# Altium footprint library IEAv.PcbLib: 1 footprints
Each footprint in its own frame and in the unit in brackets; x right, y up, seen from the top. Pads: shape width x height; smd on the part's side, far side on the other; paste and mask are expansions set on the pad; w line width, h text height; cw(c..) or ccw(c..) is an arc to the next point about the centre after c.
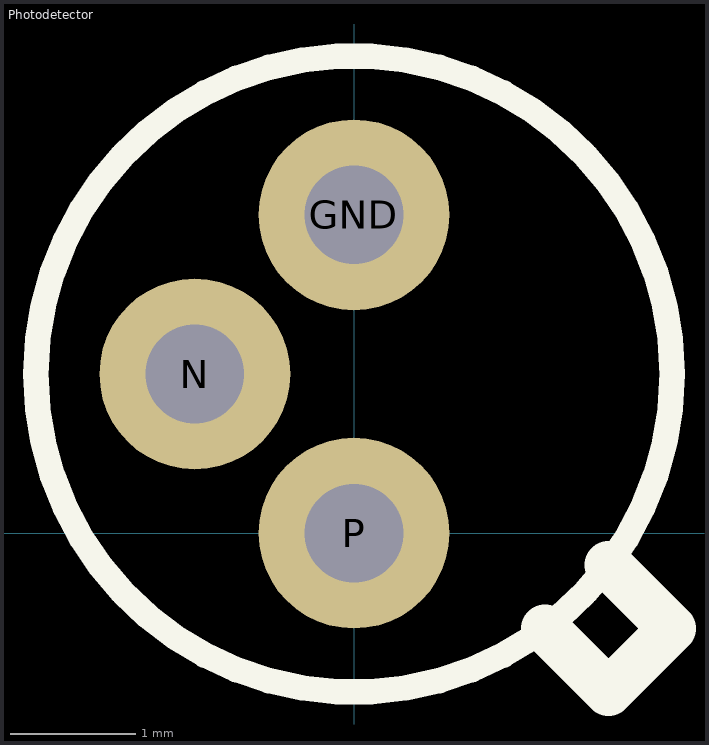
[diagram p0: the footprint, top view; thin cyan lines are the x and y axes]

## Photodetector [mil]
pads (3):
  round 60 hole 31: GND(0,100) N(-50,50) P(0,0)
Top Overlay:
  circle w8: c0,50 r100
  lines w15: 60,-30 80,-50 100,-30 80,-10